# Altium schematic symbol library superseal-26pin-te-connector.SchLib: 1 symbol
Pins are listed as number, name and electrical type; pins without a type are passive.

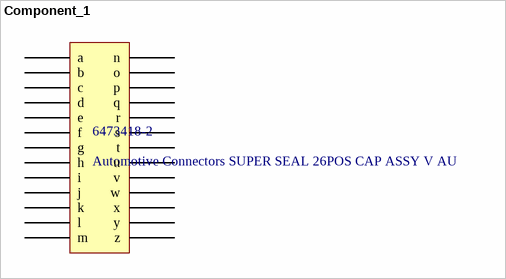
[diagram p0: symbol Component_1]

## Component_1
designator 6473418-2, comment Automotive Connectors SUPER SEAL 26POS CAP ASSY V AU
footprint 6473418-2 (Automotive Connectors SUPER SEAL 26POS CAP ASSY V AU)
pins: 1 a, 2 b, 3 c, 4 d, 5 e, 6 f, 7 g, 8 h, 9 i, 10 j, 11 k, 12 l, 13 m, 14 n, 15 o, 16 p, 17 q, 18 r, 19 s, 20 t, 21 u, 22 v, 23 w, 24 x, 25 y, 26 z